# Altium schematic symbol library SD.SchLib: 1 symbol
Pins are listed as number, name and electrical type; pins without a type are passive.

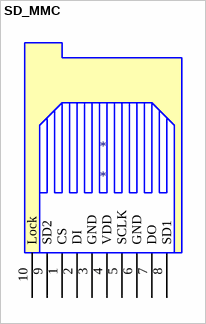
[diagram p0: symbol SD_MMC]

## SD_MMC
designator *
footprint MICRO_SD_SOCKET
pins: 1 CS, 2 DI, 3 GND, 4 VDD, 5 SCLK, 6 GND, 7 DO, 8 SD1, 9 SD2, 10 Lock